# Altium schematic symbol library RP73D2A1M0BTDF.SchLib: 1 symbol
Pins are listed as number, name and electrical type; pins without a type are passive.

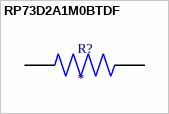
[diagram p0: symbol RP73D2A1M0BTDF]

## RP73D2A1M0BTDF
designator R?
Res Thin Film 0805 1M Ohm 0.1% 0.125W(1/8W) Â±15ppm/C Epoxy Pad SMD T/R; MP: RP73D2A1M0BTDF; Package: None; Price: None; Value: *; Availability: Unavailable
footprint RESC2012X65N
pins: 1, 2